# Altium schematic symbol library IC_ON_Semiconductor_LM7812CT_eec.SchLib: 1 symbol
Pins are listed as number, name and electrical type; pins without a type are passive.

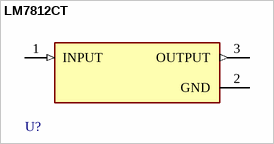
[diagram p0: symbol LM7812CT]

## LM7812CT
designator U?  (value not drawn)
pins: 1 INPUT (in), 2 GND (power), 3 OUTPUT (out)